# Altium footprint library Booster.PcbLib: 30 footprints (part 2 of 2)
Each footprint in its own frame and in the unit in brackets; x right, y up, seen from the top. Pads: shape width x height; smd on the part's side, far side on the other; paste and mask are expansions set on the pad; w line width, h text height; cw(c..) or ccw(c..) is an arc to the next point about the centre after c.
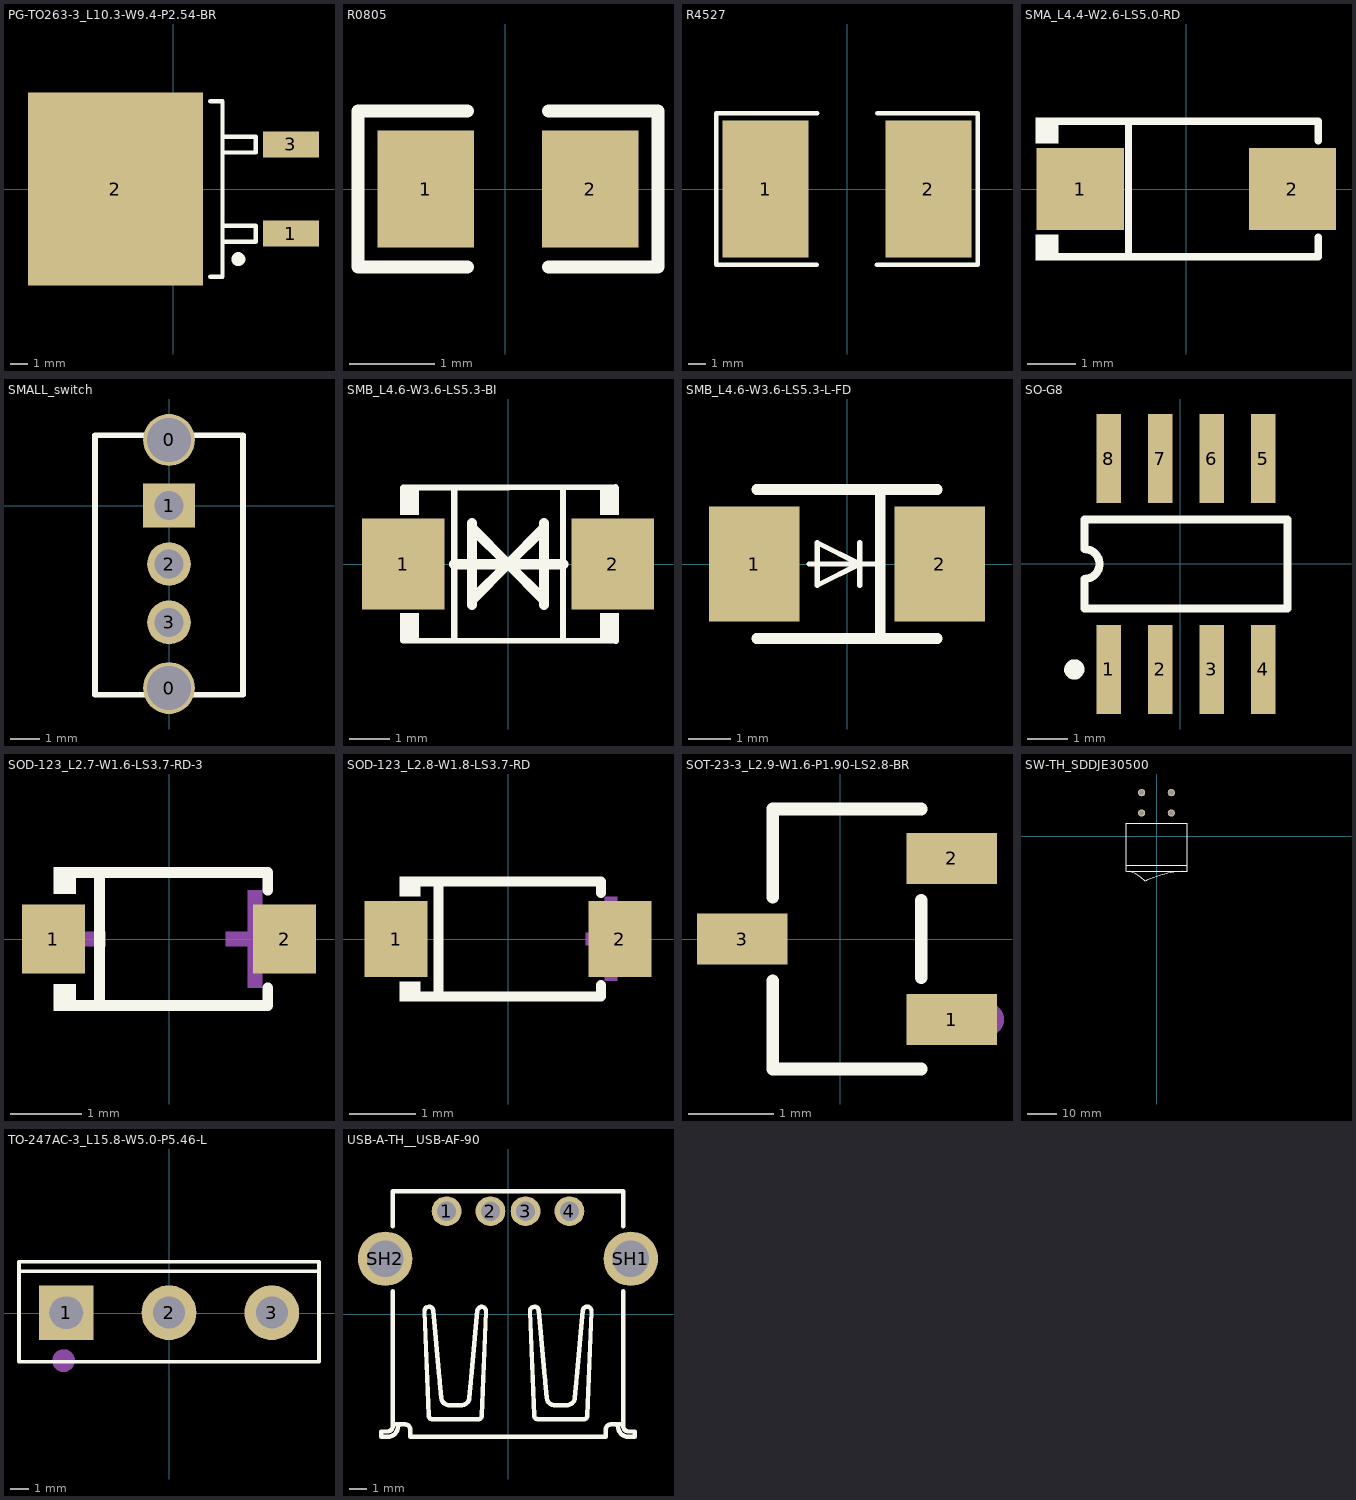
[diagram p1: the footprints below, top view; thin cyan lines are the x and y axes]

## PG-TO263-3_L10.3-W9.4-P2.54-BR [mm]
pads (3):
  rect 3.2x1.5 smd: 1(6.699,-2.54) 3(6.699,2.54)
  rect 10x11 smd: 2(-3.299,0)
Top Overlay:
  lines w0.254: 2.099,-5 2.799,-5 2.799,5 2.099,5 ; 2.799,-3 4.699,-3 4.699,-2.1 2.799,-2.1 ; 2.799,2.08 4.699,2.08 4.699,2.98 2.799,2.98
  lines w0.4: 3.7,-3.8 ccw(c3.701,-4) 3.702,-3.8
3D body "User_Library-D2PAK_TO-263-3.step": height 4.87, standoff 0, extent -8.257,-4.953 5.973,5.207

## R0805 [mm]
pads (2):
  rect 1.133x1.377 smd: 1(-0.932,0) 2(1,0)
Top Overlay:
  lines w0.152: -0.442,-0.917 -1.727,-0.917 -1.727,0.917 -0.442,0.917 ; 0.51,-0.917 1.795,-0.917 1.795,0.917 0.51,0.917
Top Paste:
  region: 0.484,-0.64 0.484,-0.22 0.929,-0.22 0.929,0.23 0.489,0.23 0.484,0.64 0.534,0.69 1.684,0.69 1.734,0.64 1.734,-0.64 1.684,-0.69 0.534,-0.69
  region: -1.666,-0.64 -1.666,0.64 -1.616,0.69 -0.466,0.69 -0.416,0.64 -0.411,0.23 -0.861,0.23 -0.861,-0.22 -0.421,-0.22 -0.416,-0.64 -0.466,-0.69 -1.616,-0.69
3D body "User_Library-R0805.step": height 0.47, standoff 0, extent -1,-0.626 1,0.626

## R4527 [mm]
pads (2):
  rect 5x8 smd: 1(-4.75,-0.01) 2(4.75,-0.01)
Top Overlay:
  lines w0.254: -1.77,-4.42 -7.63,-4.42 -7.63,4.42 -1.74,4.42 ; 1.74,-4.42 7.63,-4.42 7.63,4.42 1.77,4.42
3D body "User_Library-Vishay_WSR2_WSR3.step": height 2.42, standoff 0.01, extent -5.907,-3.429 5.653,3.551

## SMA_L4.4-W2.6-LS5.0-RD [mm]
pads (2):
  rect 1.8x1.7 smd: 1(-2.185,0) 2(2.2,0)
Top Overlay:
  region: -2.643,1.477 -2.643,0.949 -3.1,0.949 -3.1,1.477
  region: -2.643,-1.477 -2.643,-0.949 -3.1,-0.949 -3.1,-1.477
  lines w0.152: -2.719,-1.401 2.734,-1.401 2.734,-1 ; -2.719,1.401 2.734,1.401 2.734,1 ; -1.189,-1.401 -1.189,1.401
Mechanical 15:
  region: -2.444,-0.099 -2.444,0.099 -1.649,0.099 -1.649,-0.099
  region: 2.459,-0.099 2.459,0.099 1.664,0.099 1.664,-0.099
  region: 2.161,-0.663 2.161,0.663 1.962,0.663 1.962,-0.663
3D body "User_Library-DIOM5528X26(SMA(DO-214AC)).step": height 2.6, standoff 0.03, extent -2.877,-1.4 2.623,1.4

## SMALL_switch [mm] "开关"
pads (5):
  round 1.778 hole 1.5: 0(0,-6.25) 0(0,2.25)
  rect 1.778x1.5 hole 1: 1(0,0)
  round 1.5 hole 1: 2(0,-2) 3(0,-4)
Top Overlay:
  lines w0.2: -2.54,-6.477 -2.54,2.413 2.54,2.413 2.54,-6.477 -2.54,-6.477
3D body "ALSRobot-SW SPDT.STEP": height 11.31, standoff -5.79, extent -3.95,-9.963 3.95,5.08

## SMB_L4.6-W3.6-LS5.3-BI [mm]
pads (2):
  rect 2.047x2.241 smd: 1(-2.591,0) 2(2.591,0)
Top Overlay:
  region: 2.286,-1.905 2.286,-1.215 2.743,-1.215 2.743,-1.905
  region: 2.286,1.905 2.286,1.215 2.743,1.215 2.743,1.905
  region: -2.667,1.905 -2.667,1.215 -2.21,1.215 -2.21,1.905
  region: -2.667,-1.905 -2.667,-1.215 -2.21,-1.215 -2.21,-1.905
  lines w0.152: -2.599,-1.89 2.667,-1.905 ; -2.591,1.887 2.663,1.905 ; -1.331,-1.886 -1.331,1.886 ; 1.364,-1.886 1.364,1.886
  lines w0.254: -1.331,-0.008 1.364,-0.008 ; 0,0 0.889,0.889 0.889,1.016 0.889,-1.016 0.889,-0.889 0,0 ; 0,0 -0.889,-0.889 -0.889,-1.016 -0.889,1.016 -0.889,0.889 0,0
3D body "User_Library-smbj.step": height 2.23, standoff -0.09, extent -2.7,-1.81 2.7,1.81

## SMB_L4.6-W3.6-LS5.3-L-FD [mil]
pads (2):
  rect 85x108 smd: 1(-87,0) 2(87,0)
Top Overlay:
  lines w5: -35.43,0 32.13,0 ; 12.13,-20 12.13,20 12.13,0 ; 12.13,0 -27.87,-20 -27.87,20 12.13,0
  lines w10: -85,-70 85,-70 ; -85,70 85,70 ; 31.19,-70 31.19,70
Mechanical 15:
  region: 49.59,6.3 123.61,6.3 123.61,-5.51 49.59,-5.51
  region: -93.3,-37.41 -93.3,36.61 -81.49,36.61 -81.49,-37.41
  region: -124.41,6.3 -50.39,6.3 -50.39,-5.51 -124.41,-5.51
3D body "SMBJ18A.stp": height 99.98, standoff -3.45, extent -101.62,-71.25 111.3,71.27

## SO-G8 [mm]
pads (8):
  rect 0.6x2.2 smd: 1(-1.765,-2.6) 2(-0.495,-2.6) 3(0.775,-2.6) 4(2.045,-2.6) 5(2.045,2.6) 6(0.775,2.6) 7(-0.495,2.6) 8(-1.765,2.6)
Top Overlay:
  lines w0.2: -2.36,-1.1 2.64,-1.1 2.64,1.1 -2.36,1.1 -2.36,0.367 cw(c-2.36,0) -2.36,-0.367 -2.36,-1.1
  lines w0.25: -2.615,-2.475 ccw(c-2.615,-2.6) -2.609,-2.475
3D body "lm393ad.stp": height 1.56, standoff -0.17, extent -2.197,-3.102 2.705,2.921

## SOD-123_L2.7-W1.6-LS3.7-RD-3 [mm]
pads (2):
  rect 0.88x0.96 smd: 1(-1.61,0) 2(1.61,0)
Top Overlay:
  region: -1.3,-1.002 -1.3,-0.632 -1.605,-0.632 -1.605,-1.002
  region: -1.3,1.002 -1.3,0.632 -1.605,0.632 -1.605,1.002
  lines w0.152: -1.376,-0.926 1.376,-0.926 1.376,-0.683 ; -1.376,0.926 1.376,0.926 1.376,0.683 ; -0.967,-0.926 -0.967,0.926
Mechanical 15:
  region: 1.302,0.68 1.302,-0.68 1.098,-0.68 1.098,0.68
  region: 1.608,0.102 1.608,-0.102 0.792,-0.102 0.792,0.102
  region: -1.7,0.1 -1.7,-0.104 -0.884,-0.104 -0.884,0.1
3D body "User_Library-SOD123-1.step": height 1.18, standoff 0, extent -1.95,-0.9 1.95,0.9

## SOD-123_L2.8-W1.8-LS3.7-RD [mm]
pads (2):
  rect 0.95x1.15 smd: 1(-1.693,0) 2(1.693,0)
Top Overlay:
  region: -1.33,0.942 -1.33,0.647 -1.635,0.647 -1.635,0.942
  region: -1.33,-0.942 -1.33,-0.647 -1.635,-0.647 -1.635,-0.942
  lines w0.152: -1.406,-0.866 1.406,-0.866 1.406,-0.698 ; -1.406,0.866 1.406,0.866 1.406,0.698 ; -1.049,-0.866 -1.049,0.866
Mechanical 15:
  region: -2.03,0.095 -2.03,-0.095 -1.272,-0.095 -1.272,0.095
  region: 1.935,0.098 1.935,-0.092 1.177,-0.092 1.177,0.098
  region: 1.651,0.635 1.651,-0.629 1.461,-0.629 1.461,0.635
3D body "User_Library-SOD123-1.step": height 1.18, standoff 0, extent -1.95,-0.9 1.95,0.9

## SOT-23-3_L2.9-W1.6-P1.90-LS2.8-BR [mm]
pads (3):
  rect 1.07x0.6 smd: 1(1.314,-0.95) 2(1.314,0.95) 3(-1.156,0)
Top Overlay:
  lines w0.152: -0.797,-0.495 -0.797,-1.536 0.955,-1.536 ; -0.797,0.495 -0.797,1.536 0.955,1.536 ; 0.955,-0.455 0.955,0.455
Mechanical 15:
  circle w0.2: c1.73,-0.95 r0.1
3D body "SOT23 (3-Pin).stp": height 0.96, standoff -0.04, extent -1.157,-1.45 1.143,1.45

## SW-TH_SDDJE30500 [mm]
pads (4):
  round 2.5 hole 1.8: 1(5.022,8.068) 2(-5.228,8.068) 3(-5.228,15.068) 4(5.022,15.068)
Top Overlay:
  lines w0.254: -10.519,4.573 10.522,4.573 10.522,-5.579 10.522,-10.032 ; -10.478,-12.032 -10.478,-10.032 ; -10.478,4.573 -10.478,-5.579 -10.478,-10.032 ; -10.392,-12.032 10.522,-12.032 10.522,-10.032 ; -9.536,-12.032 cw(c-14.387,-26.18) -3.986,-15.432 ; -3.986,-15.432 cw(c11.896,-49.496) 8.902,-12.031 ; -10.478,-10.032 10.522,-10.032
3D body "SDDJE30500.stp": height 17.5, standoff -5, extent -10.586,-10.414 10.414,15.885

## TO-247AC-3_L15.8-W5.0-P5.46-L [mm]
pads (3):
  rect 2.9x2.9 hole 1.7 slot 1.785 at 0 deg: 1(-5.448,0.02)
  round 2.9 hole 1.7: 2(0.001,0.02) 3(5.451,0.02)
Top Overlay:
  lines w0.2: -7.95,2.22 7.95,2.22 ; -7.95,-2.581 -7.95,2.72 7.95,2.72 7.95,-2.581 -7.95,-2.581
Mechanical 15:
  circle w0.6: c-5.587,-2.52 r0.3
3D body "User_Library-TO-247AC_bent_leads.step": height 5.31, standoff -7.49, extent -7.772,-0.758 8.128,25.142

## USB-A-TH__USB-AF-90 [mm]
pads (6):
  round 1.7 hole 1.1: 1(-3.5,5.86) 2(-1,5.86) 3(1,5.86) 4(3.5,5.86)
  round 3.1 hole 2.1: SH1(7,3.15) SH2(-7,3.15)
Top Overlay:
  drawing of 192 lines, arcs and shapes, not listed
3D body "USB 3.0 connector AF 90 degree dip flat PBT blue copper case 1U rohs2.0.stp": height 5.73, standoff -5.17, extent -7.673,-8.382 7.927,8.218